# Altium schematic symbol library UCB1VR22MCL1GS.SchLib: 1 symbol
Pins are listed as number, name and electrical type; pins without a type are passive.

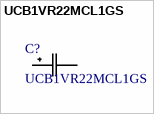
[diagram p0: symbol UCB1VR22MCL1GS]

## UCB1VR22MCL1GS
designator C?
No Description Available; Manufacturer_Name: Nichicon; Copyright: Copyright (C) 2026 Ultra Librarian. All rights reserved.; Manufacturer_Part_Number: UCB1VR22MCL1GS
footprint CAP_UCB_4X7_NCH
pins: 1, 2